# Altium footprint library 中景园2寸TFT12pin-st7789v.PcbLib: 1 footprints
Each footprint in its own frame and in the unit in brackets; x right, y up, seen from the top. Pads: shape width x height; smd on the part's side, far side on the other; paste and mask are expansions set on the pad; w line width, h text height; cw(c..) or ccw(c..) is an arc to the next point about the centre after c.
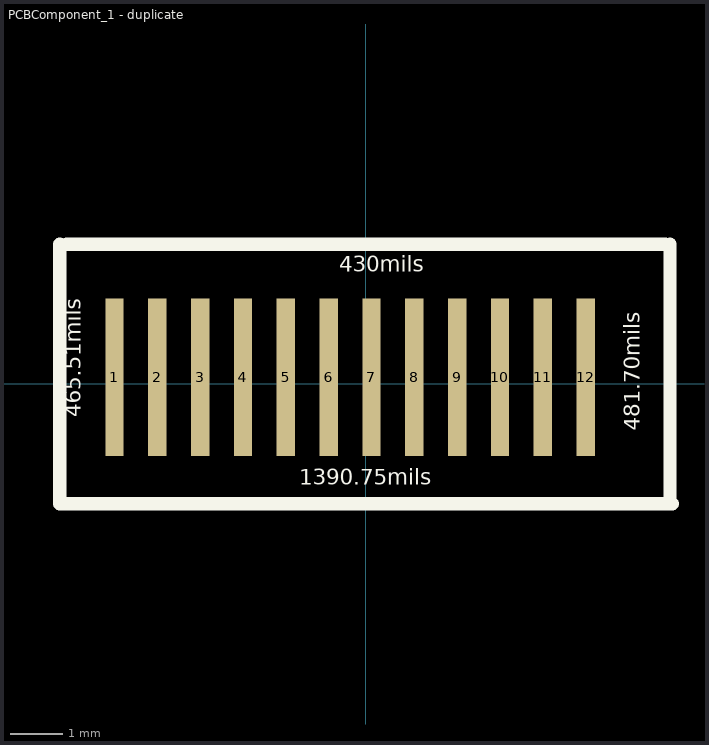
[diagram p0: the footprint, top view; thin cyan lines are the x and y axes]

## PCBComponent_1 - duplicate [mm]
pads (12):
  rect 0.35x3 smd paste+0 mask+0.102: 1(-4.794,0.127) 2(-3.976,0.127) 3(-3.159,0.127) 4(-2.341,0.127) 5(-1.524,0.127) 6(-0.707,0.127) 7(0.111,0.127) 8(0.928,0.127) 9(1.746,0.127) 10(2.563,0.127) 11(3.38,0.127) 12(4.198,0.127)
Top Overlay:
  lines w0.254: -5.835,2.667 -5.835,-2.286 5.849,-2.286 ; -5.708,2.667 5.722,2.667 ; 5.806,-2.286 5.806,2.667
  text "1390.75mils" at -1.263,-2.026 h0.51
  text "481.70mils" at 5.335,-0.889 h0.51
  text "465.51mils" at -5.333,-0.635 h0.51
  text "430mils" at -0.501,2.038 h0.51